# Altium schematic symbol library MCGPR200V106M10X13.SchLib: 1 symbol
Pins are listed as number, name and electrical type; pins without a type are passive.

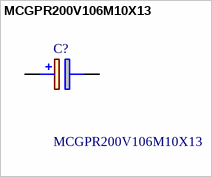
[diagram p0: symbol MCGPR200V106M10X13]

## MCGPR200V106M10X13
designator C?
ALUMINUM ELECTROLYTIC CAPACITOR 10UF, 200V, 20%, RADIAL; Manufacturer_Name: MULTICOMP; Geometry.Height: 14mm; Manufacturer_Part_Number: MCGPR200V106M10X13; Mouser Part Number: *; Mouser Price/Stock: *; Arrow Part Number: *; Arrow Price/Stock: *; Datasheet Link: https://www.farnell.com/datasheets/606466.pdf
footprint CAPPRD500W62D1025H1400
pins: 1 +, 2 -